# EAGLE library part PA_MINNOW_LURE_BRD (library PatternAgents-Boards)
PatternAgents Minnow Lure Pattern Source LBR : http://www.patternagents.com Github : https://github.com/patternagents Source Data : http://www.minnowboard.org/ Source Data : http://www.elinux.org/Minnowboard:Lures_Specifications Note Bene : The larger "Type A" format Lures will require a Standard or Professional Eagle License, due to their larger size (4.2" x 4.2"). License : http://creativecommons.org/licenses/by-sa/4.0/ (Creative Commons 4.0) THIS SOFTWARE IS PROVIDED BY THE CONTRIBUTORS "AS IS" AND WITHOUT ANY EXPRESS OR IMPLIED WARRANTIES, INCLUDING, BUT NOT LIMITED TO, THE IMPLIED WARRANTIES OF MERCHANTABILITY AND FITNESS FOR A PARTICULAR PURPOSE ARE DISCLAIMED. IN NO EVENT SHALL THE COPYRIGHT OWNER OR CONTRIBUTORS BE LIABLE FOR ANY DIRECT, INDIRECT, INCIDENTAL, SPECIAL, EXEMPLARY, OR CONSEQUENTIAL DAMAGES (INCLUDING, BUT NOT LIMITED TO, PROCUREMENT OF SUBSTITUTE GOODS OR SERVICES; LOSS OF USE, DATA, OR PROFITS; OR BUSINESS INTERRUPTION) HOWEVER CAUSED AND ON ANY THEORY OF LIABILITY, WHETHER IN CONTRACT, STRICT LIABILITY, OR TORT (INCLUDING NEGLIGENCE OR OTHERWISE) ARISING IN ANY WAY OUT OF THE USE OF THIS SOFTWARE, EVEN IF ADVISED OF THE POSSIBILITY OF SUCH DAMAGE.
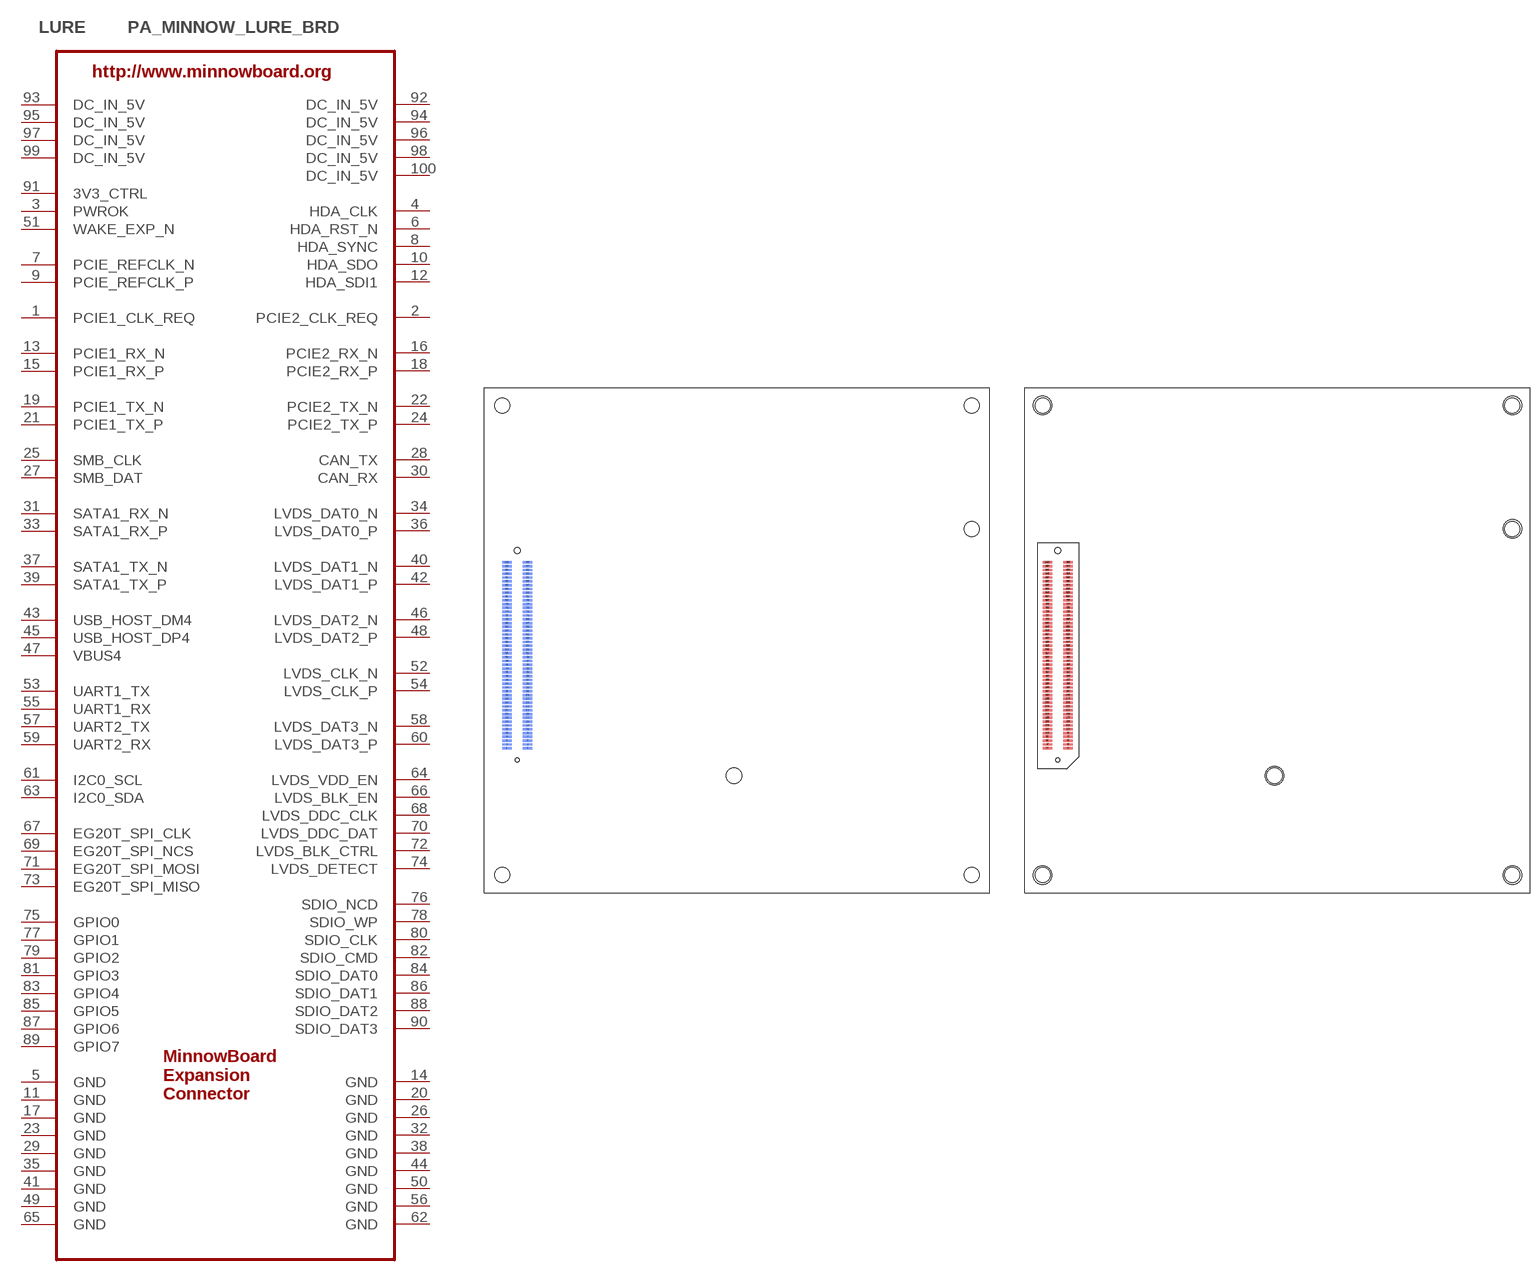
[diagram p5: symbol with the pads of PA_LURE_TYPE_A; footprints PA_LURE_TYPE_A, PA_LURE_TYPE_A_ST]

Designator prefix LURE

## PA_MINNOW_LURE_BRD_TYPE_A  [PA_LURE_TYPE_A]
1  PCIE1_CLK_REQ
2  PCIE2_CLK_REQ
3  PWROK
4  HDA_CLK
5  GND  pwr
6  HDA_RST_N
7  PCIE_REFCLK_N
8  HDA_SYNC
9  PCIE_REFCLK_P
10  HDA_SDO
11  GND  pwr
12  HDA_SDI1
13  PCIE1_RX_N
14  GND  pwr
15  PCIE1_RX_P
16  PCIE2_RX_N
17  GND  pwr
18  PCIE2_RX_P
19  PCIE1_TX_N
20  GND  pwr
21  PCIE1_TX_P
22  PCIE2_TX_N
23  GND  pwr
24  PCIE2_TX_P
25  SMB_CLK
26  GND  pwr
27  SMB_DAT
28  CAN_TX
29  GND  pwr
30  CAN_RX
31  SATA1_RX_N
32  GND  pwr
33  SATA1_RX_P
34  LVDS_DAT0_N
35  GND  pwr
36  LVDS_DAT0_P
37  SATA1_TX_N
38  GND  pwr
39  SATA1_TX_P
40  LVDS_DAT1_N
41  GND  pwr
42  LVDS_DAT1_P
43  USB_HOST_DM4
44  GND  pwr
45  USB_HOST_DP4
46  LVDS_DAT2_N
47  VBUS4  pwr
48  LVDS_DAT2_P
49  GND  pwr
50  GND  pwr
51  WAKE_EXP_N
52  LVDS_CLK_N
53  UART1_TX
54  LVDS_CLK_P
55  UART1_RX
56  GND  pwr
57  UART2_TX
58  LVDS_DAT3_N
59  UART2_RX
60  LVDS_DAT3_P
61  I2C0_SCL
62  GND  pwr
63  I2C0_SDA
64  LVDS_VDD_EN
65  GND  pwr
66  LVDS_BLK_EN
67  EG20T_SPI_CLK
68  LVDS_DDC_CLK
69  EG20T_SPI_NCS
70  LVDS_DDC_DAT
71  EG20T_SPI_MOSI
72  LVDS_BLK_CTRL
73  EG20T_SPI_MISO
74  LVDS_DETECT
75  GPIO0
76  SDIO_NCD
77  GPIO1
78  SDIO_WP
79  GPIO2
80  SDIO_CLK
81  GPIO3
82  SDIO_CMD
83  GPIO4
84  SDIO_DAT0
85  GPIO5
86  SDIO_DAT1
87  GPIO6
88  SDIO_DAT2
89  GPIO7
90  SDIO_DAT3
91  3V3_CTRL  pwr
92  DC_IN_5V  pwr
93  DC_IN_5V  pwr
94  DC_IN_5V  pwr
95  DC_IN_5V  pwr
96  DC_IN_5V  pwr
97  DC_IN_5V  pwr
98  DC_IN_5V  pwr
99  DC_IN_5V  pwr
100  DC_IN_5V  pwr

## PA_MINNOW_LURE_BRD_TYPE_A_ST  [PA_LURE_TYPE_A_ST]
1  PCIE1_CLK_REQ
1T  PCIE1_CLK_REQ
2  PCIE2_CLK_REQ
2T  PCIE2_CLK_REQ
3  PWROK
3T  PWROK
4  HDA_CLK
4T  HDA_CLK
5  GND  pwr
5T  GND  pwr
6  HDA_RST_N
6T  HDA_RST_N
7  PCIE_REFCLK_N
7T  PCIE_REFCLK_N
8  HDA_SYNC
8T  HDA_SYNC
9  PCIE_REFCLK_P
9T  PCIE_REFCLK_P
10  HDA_SDO
10T  HDA_SDO
11  GND  pwr
11T  GND  pwr
12  HDA_SDI1
12T  HDA_SDI1
13  PCIE1_RX_N
13T  PCIE1_RX_N
14  GND  pwr
14T  GND  pwr
15  PCIE1_RX_P
15T  PCIE1_RX_P
16  PCIE2_RX_N
16T  PCIE2_RX_N
17  GND  pwr
17T  GND  pwr
18  PCIE2_RX_P
18T  PCIE2_RX_P
19  PCIE1_TX_N
19T  PCIE1_TX_N
20  GND  pwr
20T  GND  pwr
21  PCIE1_TX_P
21T  PCIE1_TX_P
22  PCIE2_TX_N
22T  PCIE2_TX_N
23  GND  pwr
23T  GND  pwr
24  PCIE2_TX_P
24T  PCIE2_TX_P
25  SMB_CLK
25T  SMB_CLK
26  GND  pwr
26T  GND  pwr
27  SMB_DAT
27T  SMB_DAT
28  CAN_TX
28T  CAN_TX
29  GND  pwr
29T  GND  pwr
30  CAN_RX
30T  CAN_RX
31  SATA1_RX_N
31T  SATA1_RX_N
32  GND  pwr
32T  GND  pwr
33  SATA1_RX_P
33T  SATA1_RX_P
34  LVDS_DAT0_N
34T  LVDS_DAT0_N
35  GND  pwr
35T  GND  pwr
36  LVDS_DAT0_P
36T  LVDS_DAT0_P
37  SATA1_TX_N
37T  SATA1_TX_N
38  GND  pwr
38T  GND  pwr
39  SATA1_TX_P
39T  SATA1_TX_P
40  LVDS_DAT1_N
40T  LVDS_DAT1_N
41  GND  pwr
41T  GND  pwr
42  LVDS_DAT1_P
42T  LVDS_DAT1_P
43  USB_HOST_DM4
43T  USB_HOST_DM4
44  GND  pwr
44T  GND  pwr
45  USB_HOST_DP4
45T  USB_HOST_DP4
46  LVDS_DAT2_N
46T  LVDS_DAT2_N
47  VBUS4  pwr
47T  VBUS4  pwr
48  LVDS_DAT2_P
48T  LVDS_DAT2_P
49  GND  pwr
49T  GND  pwr
50  GND  pwr
50T  GND  pwr
51  WAKE_EXP_N
51T  WAKE_EXP_N
52  LVDS_CLK_N
52T  LVDS_CLK_N
53  UART1_TX
53T  UART1_TX
54  LVDS_CLK_P
54T  LVDS_CLK_P
55  UART1_RX
55T  UART1_RX
56  GND  pwr
56T  GND  pwr
57  UART2_TX
57T  UART2_TX
58  LVDS_DAT3_N
58T  LVDS_DAT3_N
59  UART2_RX
59T  UART2_RX
60  LVDS_DAT3_P
60T  LVDS_DAT3_P
61  I2C0_SCL
61T  I2C0_SCL
62  GND  pwr
62T  GND  pwr
63  I2C0_SDA
63T  I2C0_SDA
64  LVDS_VDD_EN
64T  LVDS_VDD_EN
65  GND  pwr
65T  GND  pwr
66  LVDS_BLK_EN
66T  LVDS_BLK_EN
67  EG20T_SPI_CLK
67T  EG20T_SPI_CLK
68  LVDS_DDC_CLK
68T  LVDS_DDC_CLK
69  EG20T_SPI_NCS
69T  EG20T_SPI_NCS
70  LVDS_DDC_DAT
70T  LVDS_DDC_DAT
71  EG20T_SPI_MOSI
71T  EG20T_SPI_MOSI
72  LVDS_BLK_CTRL
72T  LVDS_BLK_CTRL
73  EG20T_SPI_MISO
73T  EG20T_SPI_MISO
74  LVDS_DETECT
74T  LVDS_DETECT
75  GPIO0
75T  GPIO0
76  SDIO_NCD
76T  SDIO_NCD
77  GPIO1
77T  GPIO1
78  SDIO_WP
78T  SDIO_WP
79  GPIO2
79T  GPIO2
80  SDIO_CLK
80T  SDIO_CLK
81  GPIO3
81T  GPIO3
82  SDIO_CMD
82T  SDIO_CMD
83  GPIO4
83T  GPIO4
84  SDIO_DAT0
84T  SDIO_DAT0
85  GPIO5
85T  GPIO5
86  SDIO_DAT1
86T  SDIO_DAT1
87  GPIO6
87T  GPIO6
88  SDIO_DAT2
88T  SDIO_DAT2
89  GPIO7
89T  GPIO7
90  SDIO_DAT3
90T  SDIO_DAT3
91  3V3_CTRL  pwr
91T  3V3_CTRL  pwr
92  DC_IN_5V  pwr
92T  DC_IN_5V  pwr
93  DC_IN_5V  pwr
93T  DC_IN_5V  pwr
94  DC_IN_5V  pwr
94T  DC_IN_5V  pwr
95  DC_IN_5V  pwr
95T  DC_IN_5V  pwr
96  DC_IN_5V  pwr
96T  DC_IN_5V  pwr
97  DC_IN_5V  pwr
97T  DC_IN_5V  pwr
98  DC_IN_5V  pwr
98T  DC_IN_5V  pwr
99  DC_IN_5V  pwr
99T  DC_IN_5V  pwr
100  DC_IN_5V  pwr
100T  DC_IN_5V  pwr

## PA_MINNOW_LURE_BRD_TYPE_B  [PA_LURE_TYPE_B]
Pads as for PA_LURE_TYPE_A

## PA_MINNOW_LURE_BRD_TYPE_B_ST  [PA_LURE_TYPE_B_ST]
Pads as for PA_LURE_TYPE_A_ST

## PA_MINNOW_LURE_BRD_TYPE_C  [PA_LURE_TYPE_C]
Pads as for PA_LURE_TYPE_A

## PA_MINNOW_LURE_BRD_TYPE_C_ST  [PA_LURE_TYPE_C_ST]
Pads as for PA_LURE_TYPE_A_ST

## Footprint PA_LURE_TYPE_A (pad centres in mm)
PatternAgents Minnow Lure Pattern (Type A) Source LBR : http://www.patternagents.com Github : https://github.com/patternagents Source Data : http://www.minnowboard.org/ Source Data : http://www.elinux.org/Minnowboard:Lures_Specifications Note Bene : The larger "Type A" format Lures will require a Standard or Professional Eagle License, due to their larger size (4.2" x 4.2"). License : http://creativecommons.org/licenses/by-sa/4.0/ (Creative Commons 4.0) THIS SOFTWARE IS PROVIDED BY THE CONTRIBUTORS "AS IS" AND WITHOUT ANY EXPRESS OR IMPLIED WARRANTIES, INCLUDING, BUT NOT LIMITED TO, THE IMPLIED WARRANTIES OF MERCHANTABILITY AND FITNESS FOR A PARTICULAR PURPOSE ARE DISCLAIMED. IN NO EVENT SHALL THE COPYRIGHT OWNER OR CONTRIBUTORS BE LIABLE FOR ANY DIRECT, INDIRECT, INCIDENTAL, SPECIAL, EXEMPLARY, OR CONSEQUENTIAL DAMAGES (INCLUDING, BUT NOT LIMITED TO, PROCUREMENT OF SUBSTITUTE GOODS OR SERVICES; LOSS OF USE, DATA, OR PROFITS; OR BUSINESS INTERRUPTION) HOWEVER CAUSED AND ON ANY THEORY OF LIABILITY, WHETHER IN CONTRACT, STRICT LIABILITY, OR TORT (INCLUDING NEGLIGENCE OR OTHERWISE) ARISING IN ANY WAY OUT OF THE USE OF THIS SOFTWARE, EVEN IF ADVISED OF THE POSSIBILITY OF SUCH DAMAGE.
smd 2 x 0.5 bottom: 1 9.185,30.562; 2 4.785,30.562; 3 9.185,31.362; 4 4.785,31.362; 5 9.185,32.162; 6 4.785,32.162; 7 9.185,32.962; 8 4.785,32.962; 9 9.185,33.762; 10 4.785,33.762; 11 9.185,34.562; 12 4.785,34.562; 13 9.185,35.362; 14 4.785,35.362; 15 9.185,36.162; 16 4.785,36.162; 17 9.185,36.962; 18 4.785,36.962; 19 9.185,37.762; 20 4.785,37.762; 21 9.185,38.562; 22 4.785,38.562; 23 9.185,39.362; 24 4.785,39.362; 25 9.185,40.162; 26 4.785,40.162; 27 9.185,40.962; 28 4.785,40.962; 29 9.185,41.762; 30 4.785,41.762; 31 9.185,42.562; 32 4.785,42.562; 33 9.185,43.362; 34 4.785,43.362; 35 9.185,44.162; 36 4.785,44.162; 37 9.185,44.962; 38 4.785,44.962; 39 9.185,45.762; 40 4.785,45.762; 41 9.185,46.562; 42 4.785,46.562; 43 9.185,47.362; 44 4.785,47.362; 45 9.185,48.162; 46 4.785,48.162; 47 9.185,48.962; 48 4.785,48.962; 49 9.185,49.762; 50 4.785,49.762; 51 9.185,50.562; 52 4.785,50.562; 53 9.185,51.362; 54 4.785,51.362; 55 9.185,52.162; 56 4.785,52.162; 57 9.185,52.962; 58 4.785,52.962; 59 9.185,53.762; 60 4.785,53.762; 61 9.185,54.562; 62 4.785,54.562; 63 9.185,55.362; 64 4.785,55.362; 65 9.185,56.162; 66 4.785,56.162; 67 9.185,56.962; 68 4.785,56.962; 69 9.185,57.762; 70 4.785,57.762; 71 9.185,58.562; 72 4.785,58.562; 73 9.185,59.362; 74 4.785,59.362; 75 9.185,60.162; 76 4.785,60.162; 77 9.185,60.962; 78 4.785,60.962; 79 9.185,61.762; 80 4.785,61.762; 81 9.185,62.562; 82 4.785,62.562; 83 9.185,63.362; 84 4.785,63.362; 85 9.185,64.162; 86 4.785,64.162; 87 9.185,64.962; 88 4.785,64.962; 89 9.185,65.762; 90 4.785,65.762; 91 9.185,66.562; 92 4.785,66.562; 93 9.185,67.362; 94 4.785,67.362; 95 9.185,68.162; 96 4.785,68.162; 97 9.185,68.962; 98 4.785,68.962; 99 9.185,69.762; 100 4.785,69.762
hole 3.2 at 3.81,3.81
hole 3.2 at 102.87,3.81
hole 3.2 at 3.81,102.87
hole 3.2 at 102.87,102.87
hole 3.2 at 102.87,76.835
hole 3.2 at 52.705,24.765
hole 1.2 at 6.985,72.263
hole 0.8 at 6.985,28.067

## Footprint PA_LURE_TYPE_A_ST (pad centres in mm)
PatternAgents Minnow Lure Pattern (Type A - StackThru) Source LBR : http://www.patternagents.com Github : https://github.com/patternagents Source Data : http://www.minnowboard.org/ Source Data : http://www.elinux.org/Minnowboard:Lures_Specifications Note Bene : The larger "Type A" format Lures will require a Standard or Professional Eagle License, due to their larger size (4.2" x 4.2"). License : http://creativecommons.org/licenses/by-sa/4.0/ (Creative Commons 4.0) THIS SOFTWARE IS PROVIDED BY THE CONTRIBUTORS "AS IS" AND WITHOUT ANY EXPRESS OR IMPLIED WARRANTIES, INCLUDING, BUT NOT LIMITED TO, THE IMPLIED WARRANTIES OF MERCHANTABILITY AND FITNESS FOR A PARTICULAR PURPOSE ARE DISCLAIMED. IN NO EVENT SHALL THE COPYRIGHT OWNER OR CONTRIBUTORS BE LIABLE FOR ANY DIRECT, INDIRECT, INCIDENTAL, SPECIAL, EXEMPLARY, OR CONSEQUENTIAL DAMAGES (INCLUDING, BUT NOT LIMITED TO, PROCUREMENT OF SUBSTITUTE GOODS OR SERVICES; LOSS OF USE, DATA, OR PROFITS; OR BUSINESS INTERRUPTION) HOWEVER CAUSED AND ON ANY THEORY OF LIABILITY, WHETHER IN CONTRACT, STRICT LIABILITY, OR TORT (INCLUDING NEGLIGENCE OR OTHERWISE) ARISING IN ANY WAY OUT OF THE USE OF THIS SOFTWARE, EVEN IF ADVISED OF THE POSSIBILITY OF SUCH DAMAGE.
smd 2 x 0.5 bottom: 1 9.185,30.562; 2 4.785,30.562; 3 9.185,31.362; 4 4.785,31.362; 5 9.185,32.162; 6 4.785,32.162; 7 9.185,32.962; 8 4.785,32.962; 9 9.185,33.762; 10 4.785,33.762; 11 9.185,34.562; 12 4.785,34.562; 13 9.185,35.362; 14 4.785,35.362; 15 9.185,36.162; 16 4.785,36.162; 17 9.185,36.962; 18 4.785,36.962; 19 9.185,37.762; 20 4.785,37.762; 21 9.185,38.562; 22 4.785,38.562; 23 9.185,39.362; 24 4.785,39.362; 25 9.185,40.162; 26 4.785,40.162; 27 9.185,40.962; 28 4.785,40.962; 29 9.185,41.762; 30 4.785,41.762; 31 9.185,42.562; 32 4.785,42.562; 33 9.185,43.362; 34 4.785,43.362; 35 9.185,44.162; 36 4.785,44.162; 37 9.185,44.962; 38 4.785,44.962; 39 9.185,45.762; 40 4.785,45.762; 41 9.185,46.562; 42 4.785,46.562; 43 9.185,47.362; 44 4.785,47.362; 45 9.185,48.162; 46 4.785,48.162; 47 9.185,48.962; 48 4.785,48.962; 49 9.185,49.762; 50 4.785,49.762; 51 9.185,50.562; 52 4.785,50.562; 53 9.185,51.362; 54 4.785,51.362; 55 9.185,52.162; 56 4.785,52.162; 57 9.185,52.962; 58 4.785,52.962; 59 9.185,53.762; 60 4.785,53.762; 61 9.185,54.562; 62 4.785,54.562; 63 9.185,55.362; 64 4.785,55.362; 65 9.185,56.162; 66 4.785,56.162; 67 9.185,56.962; 68 4.785,56.962; 69 9.185,57.762; 70 4.785,57.762; 71 9.185,58.562; 72 4.785,58.562; 73 9.185,59.362; 74 4.785,59.362; 75 9.185,60.162; 76 4.785,60.162; 77 9.185,60.962; 78 4.785,60.962; 79 9.185,61.762; 80 4.785,61.762; 81 9.185,62.562; 82 4.785,62.562; 83 9.185,63.362; 84 4.785,63.362; 85 9.185,64.162; 86 4.785,64.162; 87 9.185,64.962; 88 4.785,64.962; 89 9.185,65.762; 90 4.785,65.762; 91 9.185,66.562; 92 4.785,66.562; 93 9.185,67.362; 94 4.785,67.362; 95 9.185,68.162; 96 4.785,68.162; 97 9.185,68.962; 98 4.785,68.962; 99 9.185,69.762; 100 4.785,69.762
smd 2 x 0.5: 1T 9.185,30.562; 2T 4.785,30.562; 3T 9.185,31.362; 4T 4.785,31.362; 5T 9.185,32.162; 6T 4.785,32.162; 7T 9.185,32.962; 8T 4.785,32.962; 9T 9.185,33.762; 10T 4.785,33.762; 11T 9.185,34.562; 12T 4.785,34.562; 13T 9.185,35.362; 14T 4.785,35.362; 15T 9.185,36.162; 16T 4.785,36.162; 17T 9.185,36.962; 18T 4.785,36.962; 19T 9.185,37.762; 20T 4.785,37.762; 21T 9.185,38.562; 22T 4.785,38.562; 23T 9.185,39.362; 24T 4.785,39.362; 25T 9.185,40.162; 26T 4.785,40.162; 27T 9.185,40.962; 28T 4.785,40.962; 29T 9.185,41.762; 30T 4.785,41.762; 31T 9.185,42.562; 32T 4.785,42.562; 33T 9.185,43.362; 34T 4.785,43.362; 35T 9.185,44.162; 36T 4.785,44.162; 37T 9.185,44.962; 38T 4.785,44.962; 39T 9.185,45.762; 40T 4.785,45.762; 41T 9.185,46.562; 42T 4.785,46.562; 43T 9.185,47.362; 44T 4.785,47.362; 45T 9.185,48.162; 46T 4.785,48.162; 47T 9.185,48.962; 48T 4.785,48.962; 49T 9.185,49.762; 50T 4.785,49.762; 51T 9.185,50.562; 52T 4.785,50.562; 53T 9.185,51.362; 54T 4.785,51.362; 55T 9.185,52.162; 56T 4.785,52.162; 57T 9.185,52.962; 58T 4.785,52.962; 59T 9.185,53.762; 60T 4.785,53.762; 61T 9.185,54.562; 62T 4.785,54.562; 63T 9.185,55.362; 64T 4.785,55.362; 65T 9.185,56.162; 66T 4.785,56.162; 67T 9.185,56.962; 68T 4.785,56.962; 69T 9.185,57.762; 70T 4.785,57.762; 71T 9.185,58.562; 72T 4.785,58.562; 73T 9.185,59.362; 74T 4.785,59.362; 75T 9.185,60.162; 76T 4.785,60.162; 77T 9.185,60.962; 78T 4.785,60.962; 79T 9.185,61.762; 80T 4.785,61.762; 81T 9.185,62.562; 82T 4.785,62.562; 83T 9.185,63.362; 84T 4.785,63.362; 85T 9.185,64.162; 86T 4.785,64.162; 87T 9.185,64.962; 88T 4.785,64.962; 89T 9.185,65.762; 90T 4.785,65.762; 91T 9.185,66.562; 92T 4.785,66.562; 93T 9.185,67.362; 94T 4.785,67.362; 95T 9.185,68.162; 96T 4.785,68.162; 97T 9.185,68.962; 98T 4.785,68.962; 99T 9.185,69.762; 100T 4.785,69.762
hole 3.2 at 3.81,3.81
hole 3.2 at 102.87,3.81
hole 3.2 at 3.81,102.87
hole 3.2 at 102.87,102.87
hole 3.2 at 102.87,76.835
hole 3.2 at 52.705,24.765
hole 1.2 at 6.985,72.263
hole 0.8 at 6.985,28.067

## Footprint PA_LURE_TYPE_B (pad centres in mm)
PatternAgents Minnow Lure Pattern (Type B) Source LBR : http://www.patternagents.com Github : https://github.com/patternagents Source Data : http://www.minnowboard.org/ Source Data : http://www.elinux.org/Minnowboard:Lures_Specifications License : http://creativecommons.org/licenses/by-sa/4.0/ (Creative Commons 4.0) THIS SOFTWARE IS PROVIDED BY THE CONTRIBUTORS "AS IS" AND WITHOUT ANY EXPRESS OR IMPLIED WARRANTIES, INCLUDING, BUT NOT LIMITED TO, THE IMPLIED WARRANTIES OF MERCHANTABILITY AND FITNESS FOR A PARTICULAR PURPOSE ARE DISCLAIMED. IN NO EVENT SHALL THE COPYRIGHT OWNER OR CONTRIBUTORS BE LIABLE FOR ANY DIRECT, INDIRECT, INCIDENTAL, SPECIAL, EXEMPLARY, OR CONSEQUENTIAL DAMAGES (INCLUDING, BUT NOT LIMITED TO, PROCUREMENT OF SUBSTITUTE GOODS OR SERVICES; LOSS OF USE, DATA, OR PROFITS; OR BUSINESS INTERRUPTION) HOWEVER CAUSED AND ON ANY THEORY OF LIABILITY, WHETHER IN CONTRACT, STRICT LIABILITY, OR TORT (INCLUDING NEGLIGENCE OR OTHERWISE) ARISING IN ANY WAY OUT OF THE USE OF THIS SOFTWARE, EVEN IF ADVISED OF THE POSSIBILITY OF SUCH DAMAGE.
smd 2 x 0.5 bottom: 1 9.185,9.734; 2 4.785,9.734; 3 9.185,10.534; 4 4.785,10.534; 5 9.185,11.334; 6 4.785,11.334; 7 9.185,12.134; 8 4.785,12.134; 9 9.185,12.934; 10 4.785,12.934; 11 9.185,13.734; 12 4.785,13.734; 13 9.185,14.534; 14 4.785,14.534; 15 9.185,15.334; 16 4.785,15.334; 17 9.185,16.134; 18 4.785,16.134; 19 9.185,16.934; 20 4.785,16.934; 21 9.185,17.734; 22 4.785,17.734; 23 9.185,18.534; 24 4.785,18.534; 25 9.185,19.334; 26 4.785,19.334; 27 9.185,20.134; 28 4.785,20.134; 29 9.185,20.934; 30 4.785,20.934; 31 9.185,21.734; 32 4.785,21.734; 33 9.185,22.534; 34 4.785,22.534; 35 9.185,23.334; 36 4.785,23.334; 37 9.185,24.134; 38 4.785,24.134; 39 9.185,24.934; 40 4.785,24.934; 41 9.185,25.734; 42 4.785,25.734; 43 9.185,26.534; 44 4.785,26.534; 45 9.185,27.334; 46 4.785,27.334; 47 9.185,28.134; 48 4.785,28.134; 49 9.185,28.934; 50 4.785,28.934; 51 9.185,29.734; 52 4.785,29.734; 53 9.185,30.534; 54 4.785,30.534; 55 9.185,31.334; 56 4.785,31.334; 57 9.185,32.134; 58 4.785,32.134; 59 9.185,32.934; 60 4.785,32.934; 61 9.185,33.734; 62 4.785,33.734; 63 9.185,34.534; 64 4.785,34.534; 65 9.185,35.334; 66 4.785,35.334; 67 9.185,36.134; 68 4.785,36.134; 69 9.185,36.934; 70 4.785,36.934; 71 9.185,37.734; 72 4.785,37.734; 73 9.185,38.534; 74 4.785,38.534; 75 9.185,39.334; 76 4.785,39.334; 77 9.185,40.134; 78 4.785,40.134; 79 9.185,40.934; 80 4.785,40.934; 81 9.185,41.734; 82 4.785,41.734; 83 9.185,42.534; 84 4.785,42.534; 85 9.185,43.334; 86 4.785,43.334; 87 9.185,44.134; 88 4.785,44.134; 89 9.185,44.934; 90 4.785,44.934; 91 9.185,45.734; 92 4.785,45.734; 93 9.185,46.534; 94 4.785,46.534; 95 9.185,47.334; 96 4.785,47.334; 97 9.185,48.134; 98 4.785,48.134; 99 9.185,48.934; 100 4.785,48.934
hole 3.2 at 102.87,56.007
hole 3.2 at 52.705,3.937
hole 1.2 at 6.985,51.435
hole 0.8 at 6.985,7.239

## Footprint PA_LURE_TYPE_B_ST (pad centres in mm)
PatternAgents Minnow Lure Pattern (Type B - StackThru) Source LBR : http://www.patternagents.com Github : https://github.com/patternagents Source Data : http://www.minnowboard.org/ Source Data : http://www.elinux.org/Minnowboard:Lures_Specifications License : http://creativecommons.org/licenses/by-sa/4.0/ (Creative Commons 4.0) THIS SOFTWARE IS PROVIDED BY THE CONTRIBUTORS "AS IS" AND WITHOUT ANY EXPRESS OR IMPLIED WARRANTIES, INCLUDING, BUT NOT LIMITED TO, THE IMPLIED WARRANTIES OF MERCHANTABILITY AND FITNESS FOR A PARTICULAR PURPOSE ARE DISCLAIMED. IN NO EVENT SHALL THE COPYRIGHT OWNER OR CONTRIBUTORS BE LIABLE FOR ANY DIRECT, INDIRECT, INCIDENTAL, SPECIAL, EXEMPLARY, OR CONSEQUENTIAL DAMAGES (INCLUDING, BUT NOT LIMITED TO, PROCUREMENT OF SUBSTITUTE GOODS OR SERVICES; LOSS OF USE, DATA, OR PROFITS; OR BUSINESS INTERRUPTION) HOWEVER CAUSED AND ON ANY THEORY OF LIABILITY, WHETHER IN CONTRACT, STRICT LIABILITY, OR TORT (INCLUDING NEGLIGENCE OR OTHERWISE) ARISING IN ANY WAY OUT OF THE USE OF THIS SOFTWARE, EVEN IF ADVISED OF THE POSSIBILITY OF SUCH DAMAGE.
smd 2 x 0.5 bottom: 1 9.185,9.734; 2 4.785,9.734; 3 9.185,10.534; 4 4.785,10.534; 5 9.185,11.334; 6 4.785,11.334; 7 9.185,12.134; 8 4.785,12.134; 9 9.185,12.934; 10 4.785,12.934; 11 9.185,13.734; 12 4.785,13.734; 13 9.185,14.534; 14 4.785,14.534; 15 9.185,15.334; 16 4.785,15.334; 17 9.185,16.134; 18 4.785,16.134; 19 9.185,16.934; 20 4.785,16.934; 21 9.185,17.734; 22 4.785,17.734; 23 9.185,18.534; 24 4.785,18.534; 25 9.185,19.334; 26 4.785,19.334; 27 9.185,20.134; 28 4.785,20.134; 29 9.185,20.934; 30 4.785,20.934; 31 9.185,21.734; 32 4.785,21.734; 33 9.185,22.534; 34 4.785,22.534; 35 9.185,23.334; 36 4.785,23.334; 37 9.185,24.134; 38 4.785,24.134; 39 9.185,24.934; 40 4.785,24.934; 41 9.185,25.734; 42 4.785,25.734; 43 9.185,26.534; 44 4.785,26.534; 45 9.185,27.334; 46 4.785,27.334; 47 9.185,28.134; 48 4.785,28.134; 49 9.185,28.934; 50 4.785,28.934; 51 9.185,29.734; 52 4.785,29.734; 53 9.185,30.534; 54 4.785,30.534; 55 9.185,31.334; 56 4.785,31.334; 57 9.185,32.134; 58 4.785,32.134; 59 9.185,32.934; 60 4.785,32.934; 61 9.185,33.734; 62 4.785,33.734; 63 9.185,34.534; 64 4.785,34.534; 65 9.185,35.334; 66 4.785,35.334; 67 9.185,36.134; 68 4.785,36.134; 69 9.185,36.934; 70 4.785,36.934; 71 9.185,37.734; 72 4.785,37.734; 73 9.185,38.534; 74 4.785,38.534; 75 9.185,39.334; 76 4.785,39.334; 77 9.185,40.134; 78 4.785,40.134; 79 9.185,40.934; 80 4.785,40.934; 81 9.185,41.734; 82 4.785,41.734; 83 9.185,42.534; 84 4.785,42.534; 85 9.185,43.334; 86 4.785,43.334; 87 9.185,44.134; 88 4.785,44.134; 89 9.185,44.934; 90 4.785,44.934; 91 9.185,45.734; 92 4.785,45.734; 93 9.185,46.534; 94 4.785,46.534; 95 9.185,47.334; 96 4.785,47.334; 97 9.185,48.134; 98 4.785,48.134; 99 9.185,48.934; 100 4.785,48.934
smd 2 x 0.5: 1T 9.185,9.734; 2T 4.785,9.734; 3T 9.185,10.534; 4T 4.785,10.534; 5T 9.185,11.334; 6T 4.785,11.334; 7T 9.185,12.134; 8T 4.785,12.134; 9T 9.185,12.934; 10T 4.785,12.934; 11T 9.185,13.734; 12T 4.785,13.734; 13T 9.185,14.534; 14T 4.785,14.534; 15T 9.185,15.334; 16T 4.785,15.334; 17T 9.185,16.134; 18T 4.785,16.134; 19T 9.185,16.934; 20T 4.785,16.934; 21T 9.185,17.734; 22T 4.785,17.734; 23T 9.185,18.534; 24T 4.785,18.534; 25T 9.185,19.334; 26T 4.785,19.334; 27T 9.185,20.134; 28T 4.785,20.134; 29T 9.185,20.934; 30T 4.785,20.934; 31T 9.185,21.734; 32T 4.785,21.734; 33T 9.185,22.534; 34T 4.785,22.534; 35T 9.185,23.334; 36T 4.785,23.334; 37T 9.185,24.134; 38T 4.785,24.134; 39T 9.185,24.934; 40T 4.785,24.934; 41T 9.185,25.734; 42T 4.785,25.734; 43T 9.185,26.534; 44T 4.785,26.534; 45T 9.185,27.334; 46T 4.785,27.334; 47T 9.185,28.134; 48T 4.785,28.134; 49T 9.185,28.934; 50T 4.785,28.934; 51T 9.185,29.734; 52T 4.785,29.734; 53T 9.185,30.534; 54T 4.785,30.534; 55T 9.185,31.334; 56T 4.785,31.334; 57T 9.185,32.134; 58T 4.785,32.134; 59T 9.185,32.934; 60T 4.785,32.934; 61T 9.185,33.734; 62T 4.785,33.734; 63T 9.185,34.534; 64T 4.785,34.534; 65T 9.185,35.334; 66T 4.785,35.334; 67T 9.185,36.134; 68T 4.785,36.134; 69T 9.185,36.934; 70T 4.785,36.934; 71T 9.185,37.734; 72T 4.785,37.734; 73T 9.185,38.534; 74T 4.785,38.534; 75T 9.185,39.334; 76T 4.785,39.334; 77T 9.185,40.134; 78T 4.785,40.134; 79T 9.185,40.934; 80T 4.785,40.934; 81T 9.185,41.734; 82T 4.785,41.734; 83T 9.185,42.534; 84T 4.785,42.534; 85T 9.185,43.334; 86T 4.785,43.334; 87T 9.185,44.134; 88T 4.785,44.134; 89T 9.185,44.934; 90T 4.785,44.934; 91T 9.185,45.734; 92T 4.785,45.734; 93T 9.185,46.534; 94T 4.785,46.534; 95T 9.185,47.334; 96T 4.785,47.334; 97T 9.185,48.134; 98T 4.785,48.134; 99T 9.185,48.934; 100T 4.785,48.934
hole 3.2 at 102.87,56.007
hole 3.2 at 52.705,3.937
hole 1.2 at 6.985,51.435
hole 0.8 at 6.985,7.239

## Footprint PA_LURE_TYPE_C (pad centres in mm)
PatternAgents Minnow Lure Pattern (Type C) Source LBR : http://www.patternagents.com Github : https://github.com/patternagents Source Data : http://www.minnowboard.org/ Source Data : http://www.elinux.org/Minnowboard:Lures_Specifications License : http://creativecommons.org/licenses/by-sa/4.0/ (Creative Commons 4.0) THIS SOFTWARE IS PROVIDED BY THE CONTRIBUTORS "AS IS" AND WITHOUT ANY EXPRESS OR IMPLIED WARRANTIES, INCLUDING, BUT NOT LIMITED TO, THE IMPLIED WARRANTIES OF MERCHANTABILITY AND FITNESS FOR A PARTICULAR PURPOSE ARE DISCLAIMED. IN NO EVENT SHALL THE COPYRIGHT OWNER OR CONTRIBUTORS BE LIABLE FOR ANY DIRECT, INDIRECT, INCIDENTAL, SPECIAL, EXEMPLARY, OR CONSEQUENTIAL DAMAGES (INCLUDING, BUT NOT LIMITED TO, PROCUREMENT OF SUBSTITUTE GOODS OR SERVICES; LOSS OF USE, DATA, OR PROFITS; OR BUSINESS INTERRUPTION) HOWEVER CAUSED AND ON ANY THEORY OF LIABILITY, WHETHER IN CONTRACT, STRICT LIABILITY, OR TORT (INCLUDING NEGLIGENCE OR OTHERWISE) ARISING IN ANY WAY OUT OF THE USE OF THIS SOFTWARE, EVEN IF ADVISED OF THE POSSIBILITY OF SUCH DAMAGE.
smd 2 x 0.5 bottom: 1 9.185,9.734; 2 4.785,9.734; 3 9.185,10.534; 4 4.785,10.534; 5 9.185,11.334; 6 4.785,11.334; 7 9.185,12.134; 8 4.785,12.134; 9 9.185,12.934; 10 4.785,12.934; 11 9.185,13.734; 12 4.785,13.734; 13 9.185,14.534; 14 4.785,14.534; 15 9.185,15.334; 16 4.785,15.334; 17 9.185,16.134; 18 4.785,16.134; 19 9.185,16.934; 20 4.785,16.934; 21 9.185,17.734; 22 4.785,17.734; 23 9.185,18.534; 24 4.785,18.534; 25 9.185,19.334; 26 4.785,19.334; 27 9.185,20.134; 28 4.785,20.134; 29 9.185,20.934; 30 4.785,20.934; 31 9.185,21.734; 32 4.785,21.734; 33 9.185,22.534; 34 4.785,22.534; 35 9.185,23.334; 36 4.785,23.334; 37 9.185,24.134; 38 4.785,24.134; 39 9.185,24.934; 40 4.785,24.934; 41 9.185,25.734; 42 4.785,25.734; 43 9.185,26.534; 44 4.785,26.534; 45 9.185,27.334; 46 4.785,27.334; 47 9.185,28.134; 48 4.785,28.134; 49 9.185,28.934; 50 4.785,28.934; 51 9.185,29.734; 52 4.785,29.734; 53 9.185,30.534; 54 4.785,30.534; 55 9.185,31.334; 56 4.785,31.334; 57 9.185,32.134; 58 4.785,32.134; 59 9.185,32.934; 60 4.785,32.934; 61 9.185,33.734; 62 4.785,33.734; 63 9.185,34.534; 64 4.785,34.534; 65 9.185,35.334; 66 4.785,35.334; 67 9.185,36.134; 68 4.785,36.134; 69 9.185,36.934; 70 4.785,36.934; 71 9.185,37.734; 72 4.785,37.734; 73 9.185,38.534; 74 4.785,38.534; 75 9.185,39.334; 76 4.785,39.334; 77 9.185,40.134; 78 4.785,40.134; 79 9.185,40.934; 80 4.785,40.934; 81 9.185,41.734; 82 4.785,41.734; 83 9.185,42.534; 84 4.785,42.534; 85 9.185,43.334; 86 4.785,43.334; 87 9.185,44.134; 88 4.785,44.134; 89 9.185,44.934; 90 4.785,44.934; 91 9.185,45.734; 92 4.785,45.734; 93 9.185,46.534; 94 4.785,46.534; 95 9.185,47.334; 96 4.785,47.334; 97 9.185,48.134; 98 4.785,48.134; 99 9.185,48.934; 100 4.785,48.934
hole 3.2 at 52.705,3.937
hole 1.2 at 6.985,51.435
hole 0.8 at 6.985,7.239

## Footprint PA_LURE_TYPE_C_ST (pad centres in mm)
PatternAgents Minnow Lure Pattern (Type C - StackThru) Source LBR : http://www.patternagents.com Github : https://github.com/patternagents Source Data : http://www.minnowboard.org/ Source Data : http://www.elinux.org/Minnowboard:Lures_Specifications License : http://creativecommons.org/licenses/by-sa/4.0/ (Creative Commons 4.0) THIS SOFTWARE IS PROVIDED BY THE CONTRIBUTORS "AS IS" AND WITHOUT ANY EXPRESS OR IMPLIED WARRANTIES, INCLUDING, BUT NOT LIMITED TO, THE IMPLIED WARRANTIES OF MERCHANTABILITY AND FITNESS FOR A PARTICULAR PURPOSE ARE DISCLAIMED. IN NO EVENT SHALL THE COPYRIGHT OWNER OR CONTRIBUTORS BE LIABLE FOR ANY DIRECT, INDIRECT, INCIDENTAL, SPECIAL, EXEMPLARY, OR CONSEQUENTIAL DAMAGES (INCLUDING, BUT NOT LIMITED TO, PROCUREMENT OF SUBSTITUTE GOODS OR SERVICES; LOSS OF USE, DATA, OR PROFITS; OR BUSINESS INTERRUPTION) HOWEVER CAUSED AND ON ANY THEORY OF LIABILITY, WHETHER IN CONTRACT, STRICT LIABILITY, OR TORT (INCLUDING NEGLIGENCE OR OTHERWISE) ARISING IN ANY WAY OUT OF THE USE OF THIS SOFTWARE, EVEN IF ADVISED OF THE POSSIBILITY OF SUCH DAMAGE.
smd 2 x 0.5 bottom: 1 9.185,9.734; 2 4.785,9.734; 3 9.185,10.534; 4 4.785,10.534; 5 9.185,11.334; 6 4.785,11.334; 7 9.185,12.134; 8 4.785,12.134; 9 9.185,12.934; 10 4.785,12.934; 11 9.185,13.734; 12 4.785,13.734; 13 9.185,14.534; 14 4.785,14.534; 15 9.185,15.334; 16 4.785,15.334; 17 9.185,16.134; 18 4.785,16.134; 19 9.185,16.934; 20 4.785,16.934; 21 9.185,17.734; 22 4.785,17.734; 23 9.185,18.534; 24 4.785,18.534; 25 9.185,19.334; 26 4.785,19.334; 27 9.185,20.134; 28 4.785,20.134; 29 9.185,20.934; 30 4.785,20.934; 31 9.185,21.734; 32 4.785,21.734; 33 9.185,22.534; 34 4.785,22.534; 35 9.185,23.334; 36 4.785,23.334; 37 9.185,24.134; 38 4.785,24.134; 39 9.185,24.934; 40 4.785,24.934; 41 9.185,25.734; 42 4.785,25.734; 43 9.185,26.534; 44 4.785,26.534; 45 9.185,27.334; 46 4.785,27.334; 47 9.185,28.134; 48 4.785,28.134; 49 9.185,28.934; 50 4.785,28.934; 51 9.185,29.734; 52 4.785,29.734; 53 9.185,30.534; 54 4.785,30.534; 55 9.185,31.334; 56 4.785,31.334; 57 9.185,32.134; 58 4.785,32.134; 59 9.185,32.934; 60 4.785,32.934; 61 9.185,33.734; 62 4.785,33.734; 63 9.185,34.534; 64 4.785,34.534; 65 9.185,35.334; 66 4.785,35.334; 67 9.185,36.134; 68 4.785,36.134; 69 9.185,36.934; 70 4.785,36.934; 71 9.185,37.734; 72 4.785,37.734; 73 9.185,38.534; 74 4.785,38.534; 75 9.185,39.334; 76 4.785,39.334; 77 9.185,40.134; 78 4.785,40.134; 79 9.185,40.934; 80 4.785,40.934; 81 9.185,41.734; 82 4.785,41.734; 83 9.185,42.534; 84 4.785,42.534; 85 9.185,43.334; 86 4.785,43.334; 87 9.185,44.134; 88 4.785,44.134; 89 9.185,44.934; 90 4.785,44.934; 91 9.185,45.734; 92 4.785,45.734; 93 9.185,46.534; 94 4.785,46.534; 95 9.185,47.334; 96 4.785,47.334; 97 9.185,48.134; 98 4.785,48.134; 99 9.185,48.934; 100 4.785,48.934
smd 2 x 0.5: 1T 9.185,9.734; 2T 4.785,9.734; 3T 9.185,10.534; 4T 4.785,10.534; 5T 9.185,11.334; 6T 4.785,11.334; 7T 9.185,12.134; 8T 4.785,12.134; 9T 9.185,12.934; 10T 4.785,12.934; 11T 9.185,13.734; 12T 4.785,13.734; 13T 9.185,14.534; 14T 4.785,14.534; 15T 9.185,15.334; 16T 4.785,15.334; 17T 9.185,16.134; 18T 4.785,16.134; 19T 9.185,16.934; 20T 4.785,16.934; 21T 9.185,17.734; 22T 4.785,17.734; 23T 9.185,18.534; 24T 4.785,18.534; 25T 9.185,19.334; 26T 4.785,19.334; 27T 9.185,20.134; 28T 4.785,20.134; 29T 9.185,20.934; 30T 4.785,20.934; 31T 9.185,21.734; 32T 4.785,21.734; 33T 9.185,22.534; 34T 4.785,22.534; 35T 9.185,23.334; 36T 4.785,23.334; 37T 9.185,24.134; 38T 4.785,24.134; 39T 9.185,24.934; 40T 4.785,24.934; 41T 9.185,25.734; 42T 4.785,25.734; 43T 9.185,26.534; 44T 4.785,26.534; 45T 9.185,27.334; 46T 4.785,27.334; 47T 9.185,28.134; 48T 4.785,28.134; 49T 9.185,28.934; 50T 4.785,28.934; 51T 9.185,29.734; 52T 4.785,29.734; 53T 9.185,30.534; 54T 4.785,30.534; 55T 9.185,31.334; 56T 4.785,31.334; 57T 9.185,32.134; 58T 4.785,32.134; 59T 9.185,32.934; 60T 4.785,32.934; 61T 9.185,33.734; 62T 4.785,33.734; 63T 9.185,34.534; 64T 4.785,34.534; 65T 9.185,35.334; 66T 4.785,35.334; 67T 9.185,36.134; 68T 4.785,36.134; 69T 9.185,36.934; 70T 4.785,36.934; 71T 9.185,37.734; 72T 4.785,37.734; 73T 9.185,38.534; 74T 4.785,38.534; 75T 9.185,39.334; 76T 4.785,39.334; 77T 9.185,40.134; 78T 4.785,40.134; 79T 9.185,40.934; 80T 4.785,40.934; 81T 9.185,41.734; 82T 4.785,41.734; 83T 9.185,42.534; 84T 4.785,42.534; 85T 9.185,43.334; 86T 4.785,43.334; 87T 9.185,44.134; 88T 4.785,44.134; 89T 9.185,44.934; 90T 4.785,44.934; 91T 9.185,45.734; 92T 4.785,45.734; 93T 9.185,46.534; 94T 4.785,46.534; 95T 9.185,47.334; 96T 4.785,47.334; 97T 9.185,48.134; 98T 4.785,48.134; 99T 9.185,48.934; 100T 4.785,48.934
hole 3.2 at 52.705,3.937
hole 1.2 at 6.985,51.435
hole 0.8 at 6.985,7.239